# EAGLE library part TCA4311A (library MIST_libraries)
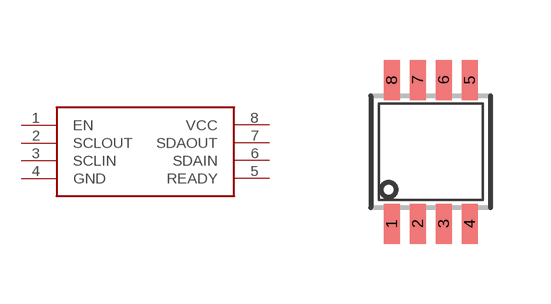
[diagram p2: symbol with the pads of SSOP08; footprint SSOP08]

Designator prefix U

## TCA4311A  [SSOP08]
1  EN
2  SCLOUT
3  SCLIN
4  GND
5  READY
6  SDAIN
7  SDAOUT
8  VCC

## Footprint SSOP08 (pad centres in mm)
SMT SSOP 08
smd 0.4 x 1: 1 -0.975,-1.8; 2 -0.325,-1.8; 3 0.325,-1.8; 4 0.975,-1.8; 5 0.975,1.8; 6 0.325,1.8; 7 -0.325,1.8; 8 -0.975,1.8